# Altium footprint library CONN_8X2_HEADER_2.54.PcbLib: 1 footprints
Each footprint in its own frame and in the unit in brackets; x right, y up, seen from the top. Pads: shape width x height; smd on the part's side, far side on the other; paste and mask are expansions set on the pad; w line width, h text height; cw(c..) or ccw(c..) is an arc to the next point about the centre after c.
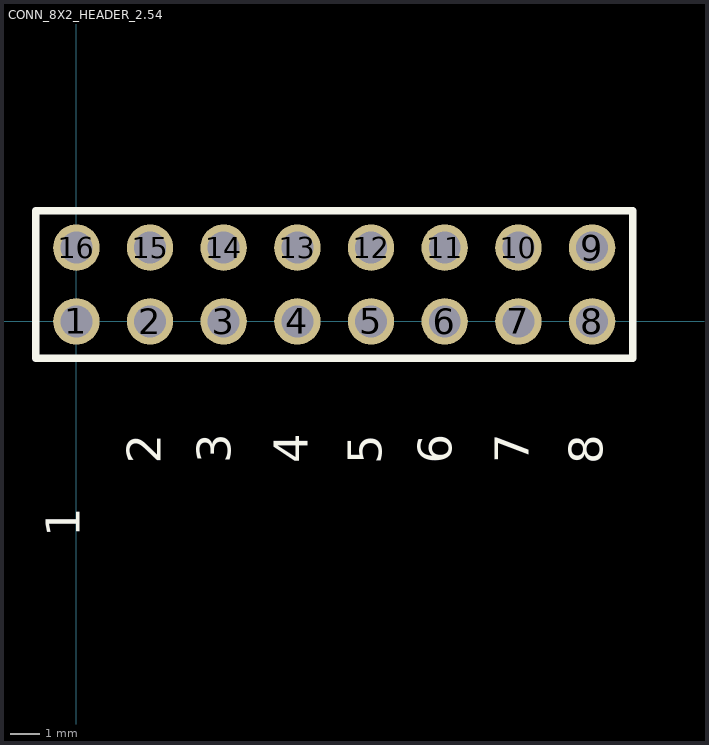
[diagram p0: the footprint, top view; thin cyan lines are the x and y axes]

## CONN_8X2_HEADER_2.54 [mm]
pads (16):
  round 1.6 hole 1.1: 1(0,0) 2(2.54,0) 3(5.08,0) 4(7.62,0) 5(10.16,0) 6(12.7,0) 7(15.24,0) 8(17.78,0) 9(17.78,2.54) 10(15.24,2.54) 11(12.7,2.54) 12(10.16,2.54) 13(7.62,2.54) 14(5.08,2.54) 15(2.54,2.54) 16(0,2.54)
Top Overlay:
  lines w0.254: -1.397,-1.27 19.177,-1.27 19.177,3.81 -1.397,3.81 -1.397,-1.27
  text "8" at 18.542,-4.921 h2
  text "7" at 16.002,-4.897 h2
  text "6" at 13.335,-4.902 h2
  text "5" at 10.922,-4.922 h2
  text "4" at 8.382,-4.896 h2
  text "3" at 5.715,-4.9 h2
  text "2" at 3.302,-4.903 h2
  text "1" at 0.508,-7.442 h2
Mechanical 1:
  text ".designator" at 7.444,1.143 h0.5
3D body "CONN_8X2_HEADER_2.54.step": height 8.19, standoff -3.24, extent -1.27,-1.147 19.05,3.687